# Altium schematic symbol library Schlib1.SchLib: 2 symbols
Pins are listed as number, name and electrical type; pins without a type are passive.

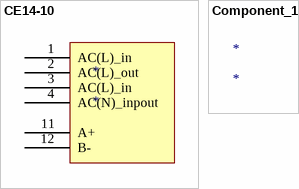
[diagram p0: symbols CE14-10 to Component_1]

## CE14-10
designator *
pins: 1 AC(L)_in, 2 AC(L)_out, 3 AC(L)_in, 4 AC(N)_inpout, 11 A+, 12 B-

## Component_1
designator *